# Altium footprint library TLC5947DAP.PcbLib: 3 footprints
Each footprint in its own frame and in the unit in brackets; x right, y up, seen from the top. Pads: shape width x height; smd on the part's side, far side on the other; paste and mask are expansions set on the pad; w line width, h text height; cw(c..) or ccw(c..) is an arc to the next point about the centre after c.
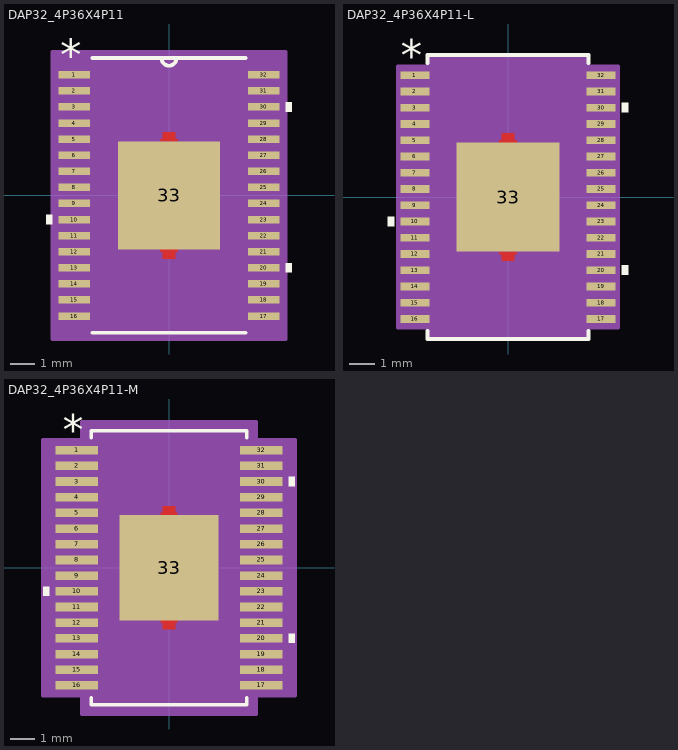
[diagram p0: the footprints below, top view; thin cyan lines are the x and y axes]

## DAP32_4P36X4P11 [mil]
pads (33):
  rect 50x12 smd paste-25 mask-25: 1(-150.5,191.93) 2(-150.5,166.34) 3(-150.5,140.75) 4(-150.5,115.16) 5(-150.5,89.57) 6(-150.5,63.98) 7(-150.5,38.39) 8(-150.5,12.8) 9(-150.5,-12.8) 10(-150.5,-38.39) 11(-150.5,-63.98) 12(-150.5,-89.57) 13(-150.5,-115.16) 14(-150.5,-140.75) 15(-150.5,-166.34) 16(-150.5,-191.93) 17(150.5,-191.93) 18(150.5,-166.34) 19(150.5,-140.75) 20(150.5,-115.16) 21(150.5,-89.57) 22(150.5,-63.98) 23(150.5,-38.39) 24(150.5,-12.8) 25(150.5,12.8) 26(150.5,38.39) 27(150.5,63.98) 28(150.5,89.57) 29(150.5,115.16) 30(150.5,140.75) 31(150.5,166.34) 32(150.5,191.93)
  rect 161.81x171.65 smd paste-85.83 mask-86: 33(0,0)
Top Layer:
  region: 13.78,85.83 -13.78,85.83 -13.78,89.76 -9.84,89.76 -9.84,100.39 9.84,100.39 9.84,89.76 13.78,89.76
  region: 13.78,-85.83 -13.78,-85.83 -13.78,-89.76 -9.84,-89.76 -9.84,-100.39 9.84,-100.39 9.84,-89.76 13.78,-89.76
Top Overlay:
  region: -185.5,-30.89 -195.5,-30.89 -195.5,-45.89 -185.5,-45.89
  region: 185.5,-107.66 195.5,-107.66 195.5,-122.66 185.5,-122.66
  region: 185.5,148.25 195.5,148.25 195.5,133.25 185.5,133.25
  lines w6: -122,-218.5 122,-218.5 ; -122,218.5 122,218.5 ; -12,218.5 ccw(c0,218.5) 12,218.5
  text "*" at -173,198.93 h50
Top Solder:
  region: 13.78,85.83 -13.78,85.83 -13.78,89.76 -9.84,89.76 -9.84,100.39 9.84,100.39 9.84,89.76 13.78,89.76
  region: 13.78,-85.83 -13.78,-85.83 -13.78,-89.76 -9.84,-89.76 -9.84,-100.39 9.84,-100.39 9.84,-89.76 13.78,-89.76
Mechanical 13:
  lines w0: -12,218.5 ccw(c0,218.5) 12,218.5
  lines w1: -163.5,-197.93 -163.5,-185.93 -122,-185.93 -122,-197.93 -163.5,-197.93 ; -163.5,-172.34 -163.5,-160.34 -122,-160.34 -122,-172.34 -163.5,-172.34 ; -163.5,-146.75 -163.5,-134.75 -122,-134.75 -122,-146.75 -163.5,-146.75 ; -163.5,-121.16 -163.5,-109.16 -122,-109.16 -122,-121.16 -163.5,-121.16 ; -163.5,-95.57 -163.5,-83.57 -122,-83.57 -122,-95.57 -163.5,-95.57 ; -163.5,-69.98 -163.5,-57.98 -122,-57.98 -122,-69.98 -163.5,-69.98 ; -163.5,-44.39 -163.5,-32.39 -122,-32.39 -122,-44.39 -163.5,-44.39 ; -163.5,-18.8 -163.5,-6.8 -122,-6.8 -122,-18.8 -163.5,-18.8 ; -163.5,6.8 -163.5,18.8 -122,18.8 -122,6.8 -163.5,6.8 ; -163.5,32.39 -163.5,44.39 -122,44.39 -122,32.39 -163.5,32.39 ; -163.5,57.98 -163.5,69.98 -122,69.98 -122,57.98 -163.5,57.98 ; -163.5,83.57 -163.5,95.57 -122,95.57 -122,83.57 -163.5,83.57 ; -163.5,109.16 -163.5,121.16 -122,121.16 -122,109.16 -163.5,109.16 ; -163.5,134.75 -163.5,146.75 -122,146.75 -122,134.75 -163.5,134.75 ; -163.5,160.34 -163.5,172.34 -122,172.34 -122,160.34 -163.5,160.34 ; -163.5,185.93 -163.5,197.93 -122,197.93 -122,185.93 -163.5,185.93 ; -122,-218.5 122,-218.5 122,218.5 -122,218.5 -122,-218.5 ; 122,-197.93 122,-185.93 163.5,-185.93 163.5,-197.93 122,-197.93 ; 122,-172.34 122,-160.34 163.5,-160.34 163.5,-172.34 122,-172.34 ; 122,-146.75 122,-134.75 163.5,-134.75 163.5,-146.75 122,-146.75 ; 122,-121.16 122,-109.16 163.5,-109.16 163.5,-121.16 122,-121.16 ; 122,-95.57 122,-83.57 163.5,-83.57 163.5,-95.57 122,-95.57 ; 122,-69.98 122,-57.98 163.5,-57.98 163.5,-69.98 122,-69.98 ; 122,-44.39 122,-32.39 163.5,-32.39 163.5,-44.39 122,-44.39 ; 122,-18.8 122,-6.8 163.5,-6.8 163.5,-18.8 122,-18.8 ; 122,6.8 122,18.8 163.5,18.8 163.5,6.8 122,6.8 ; 122,32.39 122,44.39 163.5,44.39 163.5,32.39 122,32.39 ; 122,57.98 122,69.98 163.5,69.98 163.5,57.98 122,57.98 ; 122,83.57 122,95.57 163.5,95.57 163.5,83.57 122,83.57 ; 122,109.16 122,121.16 163.5,121.16 163.5,109.16 122,109.16 ; 122,134.75 122,146.75 163.5,146.75 163.5,134.75 122,134.75 ; 122,160.34 122,172.34 163.5,172.34 163.5,160.34 122,160.34 ; 122,185.93 122,197.93 163.5,197.93 163.5,185.93 122,185.93
  text "*" at -173,198.93 h50
Mechanical 15:
  region: 185.5,-228.5 -185.5,-228.5 -185.5,228.5 185.5,228.5
  lines w6: -185.5,-228.5 -185.5,228.5 185.5,228.5 185.5,-228.5 -185.5,-228.5
3D body "DAP32_4P36X4P11.step": height 67.09, standoff 0, extent -163.5,-218.5 163.5,218.5

## DAP32_4P36X4P11-L [mil]
pads (33):
  rect 46x12 smd paste+0 mask+0: 1(-146.5,191.93) 2(-146.5,166.34) 3(-146.5,140.75) 4(-146.5,115.16) 5(-146.5,89.57) 6(-146.5,63.98) 7(-146.5,38.39) 8(-146.5,12.8) 9(-146.5,-12.8) 10(-146.5,-38.39) 11(-146.5,-63.98) 12(-146.5,-89.57) 13(-146.5,-115.16) 14(-146.5,-140.75) 15(-146.5,-166.34) 16(-146.5,-191.93) 17(146.5,-191.93) 18(146.5,-166.34) 19(146.5,-140.75) 20(146.5,-115.16) 21(146.5,-89.57) 22(146.5,-63.98) 23(146.5,-38.39) 24(146.5,-12.8) 25(146.5,12.8) 26(146.5,38.39) 27(146.5,63.98) 28(146.5,89.57) 29(146.5,115.16) 30(146.5,140.75) 31(146.5,166.34) 32(146.5,191.93)
  rect 161.81x171.65 smd paste+0 mask+0: 33(0,0)
Top Layer:
  region: 13.78,85.83 -13.78,85.83 -13.78,89.76 -9.84,89.76 -9.84,100.39 9.84,100.39 9.84,89.76 13.78,89.76
  region: 13.78,-85.83 -13.78,-85.83 -13.78,-89.76 -9.84,-89.76 -9.84,-100.39 9.84,-100.39 9.84,-89.76 13.78,-89.76
Top Overlay:
  region: -179.5,-30.89 -189.5,-30.89 -189.5,-45.89 -179.5,-45.89
  region: 179.5,-107.66 189.5,-107.66 189.5,-122.66 179.5,-122.66
  region: 179.5,148.25 189.5,148.25 189.5,133.25 179.5,133.25
  lines w6: -127,-211.03 -127,-223.5 127,-223.5 127,-211.03 ; -127,211.03 -127,223.5 127,223.5 127,211.03
  text "*" at -169,198.93 h50
Top Paste:
  region: -30.91,81.89 -76.97,81.89 -76.97,32.55 -30.91,32.55
  region: -30.91,24.67 -76.97,24.67 -76.97,-24.67 -30.91,-24.67
  region: -30.91,-32.55 -76.97,-32.55 -76.97,-81.89 -30.91,-81.89
  region: 23.03,81.89 -23.03,81.89 -23.03,32.55 23.03,32.55
  region: 23.03,24.67 -23.03,24.67 -23.03,-24.67 23.03,-24.67
  region: 23.03,-32.55 -23.03,-32.55 -23.03,-81.89 23.03,-81.89
  region: 76.97,81.89 30.91,81.89 30.91,32.55 76.97,32.55
  region: 76.97,24.67 30.91,24.67 30.91,-24.67 76.97,-24.67
  region: 76.97,-32.55 30.91,-32.55 30.91,-81.89 76.97,-81.89
Top Solder:
  region: 13.78,85.83 -13.78,85.83 -13.78,89.76 -9.84,89.76 -9.84,100.39 9.84,100.39 9.84,89.76 13.78,89.76
  region: 13.78,-85.83 -13.78,-85.83 -13.78,-89.76 -9.84,-89.76 -9.84,-100.39 9.84,-100.39 9.84,-89.76 13.78,-89.76
Mechanical 13:
  lines w0: -12,218.5 ccw(c0,218.5) 12,218.5
  lines w1: -163.5,-197.93 -163.5,-185.93 -122,-185.93 -122,-197.93 -163.5,-197.93 ; -163.5,-172.34 -163.5,-160.34 -122,-160.34 -122,-172.34 -163.5,-172.34 ; -163.5,-146.75 -163.5,-134.75 -122,-134.75 -122,-146.75 -163.5,-146.75 ; -163.5,-121.16 -163.5,-109.16 -122,-109.16 -122,-121.16 -163.5,-121.16 ; -163.5,-95.57 -163.5,-83.57 -122,-83.57 -122,-95.57 -163.5,-95.57 ; -163.5,-69.98 -163.5,-57.98 -122,-57.98 -122,-69.98 -163.5,-69.98 ; -163.5,-44.39 -163.5,-32.39 -122,-32.39 -122,-44.39 -163.5,-44.39 ; -163.5,-18.8 -163.5,-6.8 -122,-6.8 -122,-18.8 -163.5,-18.8 ; -163.5,6.8 -163.5,18.8 -122,18.8 -122,6.8 -163.5,6.8 ; -163.5,32.39 -163.5,44.39 -122,44.39 -122,32.39 -163.5,32.39 ; -163.5,57.98 -163.5,69.98 -122,69.98 -122,57.98 -163.5,57.98 ; -163.5,83.57 -163.5,95.57 -122,95.57 -122,83.57 -163.5,83.57 ; -163.5,109.16 -163.5,121.16 -122,121.16 -122,109.16 -163.5,109.16 ; -163.5,134.75 -163.5,146.75 -122,146.75 -122,134.75 -163.5,134.75 ; -163.5,160.34 -163.5,172.34 -122,172.34 -122,160.34 -163.5,160.34 ; -163.5,185.93 -163.5,197.93 -122,197.93 -122,185.93 -163.5,185.93 ; -122,-218.5 122,-218.5 122,218.5 -122,218.5 -122,-218.5 ; 122,-197.93 122,-185.93 163.5,-185.93 163.5,-197.93 122,-197.93 ; 122,-172.34 122,-160.34 163.5,-160.34 163.5,-172.34 122,-172.34 ; 122,-146.75 122,-134.75 163.5,-134.75 163.5,-146.75 122,-146.75 ; 122,-121.16 122,-109.16 163.5,-109.16 163.5,-121.16 122,-121.16 ; 122,-95.57 122,-83.57 163.5,-83.57 163.5,-95.57 122,-95.57 ; 122,-69.98 122,-57.98 163.5,-57.98 163.5,-69.98 122,-69.98 ; 122,-44.39 122,-32.39 163.5,-32.39 163.5,-44.39 122,-44.39 ; 122,-18.8 122,-6.8 163.5,-6.8 163.5,-18.8 122,-18.8 ; 122,6.8 122,18.8 163.5,18.8 163.5,6.8 122,6.8 ; 122,32.39 122,44.39 163.5,44.39 163.5,32.39 122,32.39 ; 122,57.98 122,69.98 163.5,69.98 163.5,57.98 122,57.98 ; 122,83.57 122,95.57 163.5,95.57 163.5,83.57 122,83.57 ; 122,109.16 122,121.16 163.5,121.16 163.5,109.16 122,109.16 ; 122,134.75 122,146.75 163.5,146.75 163.5,134.75 122,134.75 ; 122,160.34 122,172.34 163.5,172.34 163.5,160.34 122,160.34 ; 122,185.93 122,197.93 163.5,197.93 163.5,185.93 122,185.93
  text "*" at -124.5,153.93 h50
Mechanical 15:
  region: -126,-205.53 -173.5,-205.53 -173.5,205.53 -126,205.53 -126,222.5 126,222.5 126,205.53 173.5,205.53 173.5,-205.53 126,-205.53 126,-222.5 -126,-222.5
  lines w6: -173.5,-205.53 -173.5,205.53 -126,205.53 -126,222.5 126,222.5 126,205.53 173.5,205.53 173.5,-205.53 126,-205.53 126,-222.5 -126,-222.5 -126,-205.53 -173.5,-205.53
3D body "DAP32_4P36X4P11.step": height 67.09, standoff 0, extent -163.5,-218.5 163.5,218.5

## DAP32_4P36X4P11-M [mil]
pads (33):
  rect 70x14 smd paste+0 mask+0: 1(-150.5,191.93) 2(-150.5,166.34) 3(-150.5,140.75) 4(-150.5,115.16) 5(-150.5,89.57) 6(-150.5,63.98) 7(-150.5,38.39) 8(-150.5,12.8) 9(-150.5,-12.8) 10(-150.5,-38.39) 11(-150.5,-63.98) 12(-150.5,-89.57) 13(-150.5,-115.16) 14(-150.5,-140.75) 15(-150.5,-166.34) 16(-150.5,-191.93) 17(150.5,-191.93) 18(150.5,-166.34) 19(150.5,-140.75) 20(150.5,-115.16) 21(150.5,-89.57) 22(150.5,-63.98) 23(150.5,-38.39) 24(150.5,-12.8) 25(150.5,12.8) 26(150.5,38.39) 27(150.5,63.98) 28(150.5,89.57) 29(150.5,115.16) 30(150.5,140.75) 31(150.5,166.34) 32(150.5,191.93)
  rect 161.81x171.65 smd paste+0 mask+0: 33(0,0)
Top Layer:
  region: 13.78,85.83 -13.78,85.83 -13.78,89.76 -9.84,89.76 -9.84,100.39 9.84,100.39 9.84,89.76 13.78,89.76
  region: 13.78,-85.83 -13.78,-85.83 -13.78,-89.76 -9.84,-89.76 -9.84,-100.39 9.84,-100.39 9.84,-89.76 13.78,-89.76
Top Overlay:
  region: -195.5,-30.89 -205.5,-30.89 -205.5,-45.89 -195.5,-45.89
  region: 195.5,-107.66 205.5,-107.66 205.5,-122.66 195.5,-122.66
  region: 195.5,148.25 205.5,148.25 205.5,133.25 195.5,133.25
  lines w6: -127,-212.03 -127,-223.5 127,-223.5 127,-212.03 ; -127,212.03 -127,223.5 127,223.5 127,212.03
  text "*" at -173,200.93 h50
Top Paste:
  region: -30.91,81.89 -76.97,81.89 -76.97,32.55 -30.91,32.55
  region: -30.91,24.67 -76.97,24.67 -76.97,-24.67 -30.91,-24.67
  region: -30.91,-32.55 -76.97,-32.55 -76.97,-81.89 -30.91,-81.89
  region: 23.03,81.89 -23.03,81.89 -23.03,32.55 23.03,32.55
  region: 23.03,24.67 -23.03,24.67 -23.03,-24.67 23.03,-24.67
  region: 23.03,-32.55 -23.03,-32.55 -23.03,-81.89 23.03,-81.89
  region: 76.97,81.89 30.91,81.89 30.91,32.55 76.97,32.55
  region: 76.97,24.67 30.91,24.67 30.91,-24.67 76.97,-24.67
  region: 76.97,-32.55 30.91,-32.55 30.91,-81.89 76.97,-81.89
Top Solder:
  region: 13.78,85.83 -13.78,85.83 -13.78,89.76 -9.84,89.76 -9.84,100.39 9.84,100.39 9.84,89.76 13.78,89.76
  region: 13.78,-85.83 -13.78,-85.83 -13.78,-89.76 -9.84,-89.76 -9.84,-100.39 9.84,-100.39 9.84,-89.76 13.78,-89.76
Mechanical 13:
  lines w0: -12,218.5 ccw(c0,218.5) 12,218.5
  lines w1: -163.5,-197.93 -163.5,-185.93 -122,-185.93 -122,-197.93 -163.5,-197.93 ; -163.5,-172.34 -163.5,-160.34 -122,-160.34 -122,-172.34 -163.5,-172.34 ; -163.5,-146.75 -163.5,-134.75 -122,-134.75 -122,-146.75 -163.5,-146.75 ; -163.5,-121.16 -163.5,-109.16 -122,-109.16 -122,-121.16 -163.5,-121.16 ; -163.5,-95.57 -163.5,-83.57 -122,-83.57 -122,-95.57 -163.5,-95.57 ; -163.5,-69.98 -163.5,-57.98 -122,-57.98 -122,-69.98 -163.5,-69.98 ; -163.5,-44.39 -163.5,-32.39 -122,-32.39 -122,-44.39 -163.5,-44.39 ; -163.5,-18.8 -163.5,-6.8 -122,-6.8 -122,-18.8 -163.5,-18.8 ; -163.5,6.8 -163.5,18.8 -122,18.8 -122,6.8 -163.5,6.8 ; -163.5,32.39 -163.5,44.39 -122,44.39 -122,32.39 -163.5,32.39 ; -163.5,57.98 -163.5,69.98 -122,69.98 -122,57.98 -163.5,57.98 ; -163.5,83.57 -163.5,95.57 -122,95.57 -122,83.57 -163.5,83.57 ; -163.5,109.16 -163.5,121.16 -122,121.16 -122,109.16 -163.5,109.16 ; -163.5,134.75 -163.5,146.75 -122,146.75 -122,134.75 -163.5,134.75 ; -163.5,160.34 -163.5,172.34 -122,172.34 -122,160.34 -163.5,160.34 ; -163.5,185.93 -163.5,197.93 -122,197.93 -122,185.93 -163.5,185.93 ; -122,-218.5 122,-218.5 122,218.5 -122,218.5 -122,-218.5 ; 122,-197.93 122,-185.93 163.5,-185.93 163.5,-197.93 122,-197.93 ; 122,-172.34 122,-160.34 163.5,-160.34 163.5,-172.34 122,-172.34 ; 122,-146.75 122,-134.75 163.5,-134.75 163.5,-146.75 122,-146.75 ; 122,-121.16 122,-109.16 163.5,-109.16 163.5,-121.16 122,-121.16 ; 122,-95.57 122,-83.57 163.5,-83.57 163.5,-95.57 122,-95.57 ; 122,-69.98 122,-57.98 163.5,-57.98 163.5,-69.98 122,-69.98 ; 122,-44.39 122,-32.39 163.5,-32.39 163.5,-44.39 122,-44.39 ; 122,-18.8 122,-6.8 163.5,-6.8 163.5,-18.8 122,-18.8 ; 122,6.8 122,18.8 163.5,18.8 163.5,6.8 122,6.8 ; 122,32.39 122,44.39 163.5,44.39 163.5,32.39 122,32.39 ; 122,57.98 122,69.98 163.5,69.98 163.5,57.98 122,57.98 ; 122,83.57 122,95.57 163.5,95.57 163.5,83.57 122,83.57 ; 122,109.16 122,121.16 163.5,121.16 163.5,109.16 122,109.16 ; 122,134.75 122,146.75 163.5,146.75 163.5,134.75 122,134.75 ; 122,160.34 122,172.34 163.5,172.34 163.5,160.34 122,160.34 ; 122,185.93 122,197.93 163.5,197.93 163.5,185.93 122,185.93
  text "*" at -124.5,155.93 h50
Mechanical 15:
  region: -142,-208.73 -205.5,-208.73 -205.5,208.73 -142,208.73 -142,238.5 142,238.5 142,208.73 205.5,208.73 205.5,-208.73 142,-208.73 142,-238.5 -142,-238.5
  lines w6: -205.5,-208.73 -205.5,208.73 -142,208.73 -142,238.5 142,238.5 142,208.73 205.5,208.73 205.5,-208.73 142,-208.73 142,-238.5 -142,-238.5 -142,-208.73 -205.5,-208.73
3D body "DAP32_4P36X4P11.step": height 67.09, standoff 0, extent -163.5,-218.5 163.5,218.5